# Altium integrated library PSOM_EvalA.IntLib: 30 symbols
Pins are listed as number, name and electrical type; pins without a type are passive.

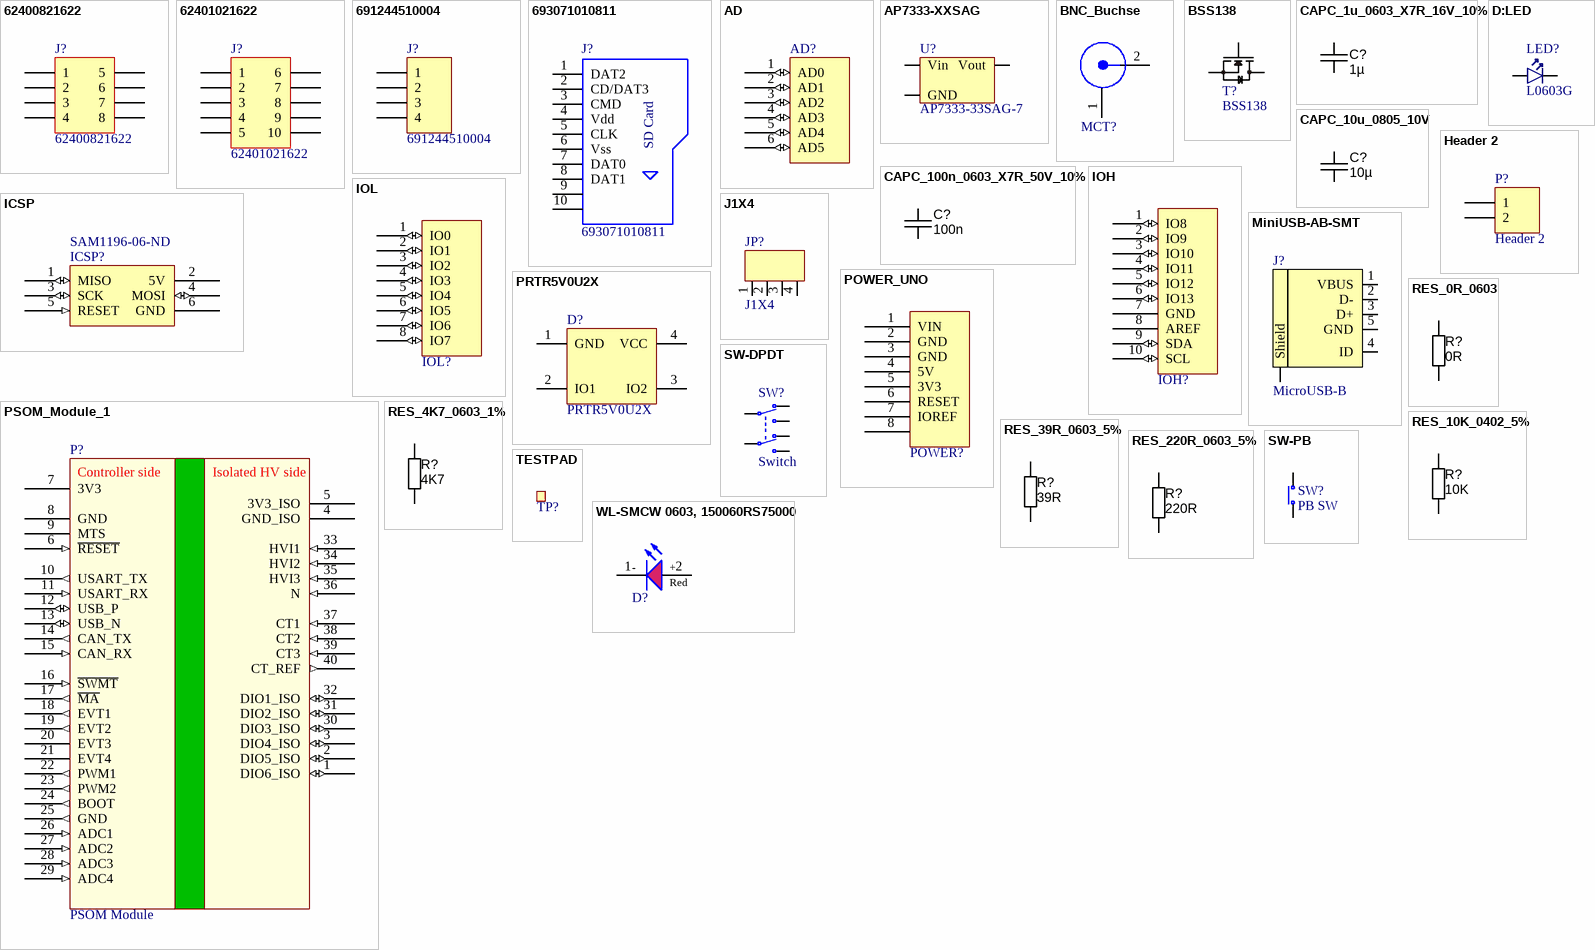
[diagram p0: symbols 62400821622 to WL-SMCW 0603, 150060RS75000]

## 62400821622
designator J?
WR-WTB 2.00mm Male Dual Row Vertical Shrouded Header w. positive locking, 8 pins; Manufacturer: Wurth Elektronik; ComponentLink1 Description: Manufacturer; ComponentLink2 Description: Datasheet; NoPins: 8; Created Date: March 2016; partNo: 62400821622; ComponentLink1URL: http://www.we-online.com; ComponentLink2URL: http://katalog.we-online.de/em/datasheet/6240xx21622.pdf; Created by: Baojun Chen
footprint 62400821622 (08 pins, Dual Rows, Straight, tin plating)
pins: 1, 2, 3, 4, 5, 6, 7, 8

## 62401021622
designator J?
WR-WTB 2.00mm Male Dual Row Vertical Shrouded Header w. positive locking, 10 pins; Manufacturer: Wurth Elektronik; ComponentLink1 Description: Manufacturer; ComponentLink2 Description: Datasheet; NoPins: 10; Created Date: March 2016; partNo: 62401021622; ComponentLink1URL: http://www.we-online.com; ComponentLink2URL: http://katalog.we-online.de/em/datasheet/6240xx21622.pdf; Created by: Baojun Chen
footprint 62401021622 (10 pins, Dual Rows, Straight, tin plating)
pins: 1, 2, 3, 4, 5, 6, 7, 8, 9, 10

## 691244510004
designator J?
WR-TBL Serie 2445 - 5.08mm Horizontal Entry Modular w. Rising Cage Clamp, 04p; PinNumber: 04; Published: June 2016; Publisher: Wurth Elektronik; ComponentLink1Description: Manufacturer; ComponentLink1URL: http://www.we-online.de; ComponentLink2Description: Datasheet; ComponentLink2URL: http://katalog.we-online.de/em/datasheet/6912445100XX.pdf; PartNumber: 691244510004
footprint 691244510004 (Serie 2445 - 5.08 mm _ 4 pins)
pins: 1, 2, 3, 4

## 693071010811
designator J?
WR-CRD Micro SD Card Connector Push & Push - 8 pins; Published: June 2016; Publisher: Wurth Elektronik; ComponentLink1Description: Manufacturer; ComponentLink1URL: http://www.we-online.de; ComponentLink2Description: Datasheet; ComponentLink2URL: http://katalog.we-online.de/em/datasheet/693071010811.pdf; PartNumber: 693071010811
footprint 693071010811 (WR-CRD Micro SD_Push and Push_Card Detection_8 pins)
pins: 1 DAT2, 2 CD/DAT3, 3 CMD, 4 Vdd, 5 CLK, 6 Vss, 7 DAT0, 8 DAT1, 9, 10
text: SD Card

## AD
designator AD?  (value not drawn)
Supplier 1: Arrow; Supplier Part Number 1: 2699089; Supplier 2: Digi-Key; Supplier Part Number 2: SAM1198-06-ND; Supplier 3: Arrow; Supplier Part Number 3: 2699088; Supplier 4: Arrow; Supplier Part Number 4: 2699075
footprint Header 6x1 8.5mm (Stackable 6 pin header)
pins: 1 AD0 (io), 2 AD1 (io), 3 AD2 (io), 4 AD3 (io), 5 AD4 (io), 6 AD5 (io)

## AP7333-XXSAG
designator U?, comment AP7333-33SAG-7
300mA, Low Quiescent Current, Fast Transient Low Dropout Linear Regulator; Manufacturer: Diodes Incorporated; Part Number: AP7333-33SAG-7; Manufacturer Part Number: AP7333-33SAG-7; Datasheet: http://www.diodes.com/datasheets/AP7333.pdf; Value: AP7333-33SAG-7; Supplier: Digi-Key; Supplier part number: AP7333-33SAG-7DICT-ND; Footprint Doc: SOT-23-3
footprint SOT-23A
pins: 1 Vin, 2 Vout, 3 GND

## BNC_Buchse
designator MCT?
BNC Conector
footprint BNC_Female (BNC Buchse)
pins: 1 "USB Vcc [Red]", 2 "USB Data - [White]"

## BSS138
designator T?
N-Chanel FET,SMD; Text Field7: Best.-Nr.:; NEU:  PM / 20.10.97: *; Geändert:: *
footprint SOT23-3 (SOT23, 3 pin)
pins: 1 G, 2 S, 3 D

## CAPC_1u_0603_X7R_16V_10%
designator C?, comment value 1µ  (hidden comment: approved sub OK)
Capacitor SMD Cer 1uF 10% 16V X7R 0603; Manufacturer 1: TDK Corporation; Manufacturer Part Number 1: C1608X7R1C105K; Ratings: 16V; X7R; Material: ceramic; SCDType: spec; Package / Case: 0603 (1608 metric); Tolerance: ±10%; Supplier 1: Digi-Key; Supplier Part Number 1: 445-1604-1-ND; ComponentLink1URL: http://product.tdk.com/capacitor/mlcc/en/documents/mlcc_commercial_general_en.pdf; ComponentLink1Description: http://product.tdk.com/capacitor/mlcc/en/documents/mlcc_commercial_general_en.pdf
footprint CAPC1608X90N (Chip Capacitor, Body 1.6x0.8mm, 0603, IPC Medium Density)
pins: 1, 2

## CAPC_10u_0805_10V
designator C?, comment value 10µ  (hidden comment: approved sub OK)
Capacitor SMD Cer 10uF 10% 10V X5R 0805; Manufacturer 1: AVX Corporation; Manufacturer Part Number 1: 0805ZD106KAT2A; Ratings: 10V; X5R; Material: ceramic; SCDType: spec; Package / Case: 0805 (2012 metric); Tolerance: ±10%; Manufacturer 2: Kemet; Manufacturer Part Number 2: C0805C106K8PACTU; Supplier 1: Digi-Key; Supplier Part Number 1: 478-5167-1-ND; ComponentLink1URL: http://www.avx.com/docs/Catalogs/cx5r.pdf; ComponentLink1Description: http://www.avx.com/docs/Catalogs/cx5r.pdf; ComponentLink2URL: http://www.kemet.com/datasheets&C0805C106K8PACTU; ComponentLink2Description: http://www.kemet.com/datasheets&C0805C106K8PACTU; Supplier 2: Digi-Key; Supplier Part Number 2: 399-4925-1-ND
footprint CAPC2012X135N (Chip Capacitor, Body 2.0x1.2mm, 0805, IPC Medium Density)
pins: 1, 2

## CAPC_100n_0603_X7R_50V_10%
designator C?, comment value 100n  (hidden comment: approved sub OK)
Capacitor SMD Cer 100nF 10% 50V X7R 0603; Manufacturer 1: AVX Corporation; Manufacturer Part Number 1: 06035C104KAT2A; Ratings: 50V; X7R; Material: ceramic; SCDType: spec; Manufacturer 2: TDK Corporation; Manufacturer Part Number 2: C1608X7R1H104K; Package / Case: 0603 (1608 Metric); Tolerance: ±10%; Supplier 1: Digi-Key; Supplier Part Number 1: 478-5052-1-ND; ComponentLink1URL: http://www.avx.com/docs/Catalogs/cx7r.pdf; ComponentLink1Description: http://www.avx.com/docs/Catalogs/cx7r.pdf; Supplier 2: Digi-Key; Supplier Part Number 2: 445-1314-1-ND; ComponentLink2URL: http://product.tdk.com/capacitor/mlcc/en/documents/mlcc_commercial_general_en.pdf; ComponentLink2Description: http://product.tdk.com/capacitor/mlcc/en/documents/mlcc_commercial_general_en.pdf
footprint CAPC1608X90N (Chip Capacitor, Body 1.6x0.8mm, 0603, IPC Medium Density)
pins: 1, 2

## D:LED
designator LED?, comment L0603G
LED 0603, EL19-21SYGC; Manufacturer: Everlight; Manufacturer Part Number: 19-21SYGC/S530-E1/TR8; Note: 16 mcd @ 20 mA; Artikkelnr Noca: 13019044; Artikkelnr Simpro: N.A.; Part Number: EL19-21SYGC; Datasheet: http://www.everlight.com/datasheets/19_21SYGC_S530_E2_TR8.pdf; Footprint Doc: 0603; LatestRevisionDate: 2013-06-04; Pin Count: 2; Publisher: Nordic Semiconductor; Published: 2009-05-18; Value: L0603G; Supplier: Mouser; Supplier part number: 638-1921SYGCS530; 2nd source Supplier: *; 2nd source part number: *
footprint LED_0603_G
pins: 1 C, 2 A

## Header 2
designator P?
Header, 2-Pin; LatestRevisionDate: 17-Jul-2002; LatestRevisionNote: Re-released for DXP Platform.; Publisher: Altium Limited
footprint HDR1X2 (Connector; Header; 2 Position)
signal-integrity model Connector
pins: 1, 2

## ICSP
designator ICSP?  Supplier Part Number 5: SAM1196-06-ND  (hidden comment: ICSP)
Supplier 1: Arrow; Supplier Part Number 1: 2699117; Supplier 2: Arrow; Supplier Part Number 2: 2699116; Supplier 3: Digi-Key; Supplier Part Number 3: SAM1185-06-ND; Supplier 4: Arrow; Supplier Part Number 4: 2699091; Supplier 5: Digi-Key
footprint ICSP
pins: 1 MISO (io), 2 5V (power), 3 SCK (io), 4 MOSI (io), 5 RESET (in), 6 GND (power)

## IOH
designator IOH?  (value not drawn)
Supplier 1: Arrow; Supplier Part Number 1: 2698803S4475693N1004; Supplier 2: Digi-Key; Supplier Part Number 2: SAM1198-10-ND; Supplier 3: Arrow; Supplier Part Number 3: 2698789
footprint Header 10x1 8.5mm (Stackable 10 pin header)
pins: 1 IO8 (io), 2 IO9 (io), 3 IO10 (io), 4 IO11 (io), 5 IO12 (io), 6 IO13 (io), 7 GND (power), 8 AREF, 9 SDA (io), 10 SCL (io)

## IOL
designator IOL?  (value not drawn)
Supplier 1: Digi-Key; Supplier Part Number 1: SAM1198-08-ND; Supplier 2: Arrow; Supplier Part Number 2: 2698939; Supplier 3: Arrow; Supplier Part Number 3: 2698940; Supplier 4: Arrow; Supplier Part Number 4: 2698925
footprint Header 8x1 8.5mm (Stackable 8 pin header)
pins: 1 IO0 (io), 2 IO1 (io), 3 IO2 (io), 4 IO3 (io), 5 IO4 (io), 6 IO5 (io), 7 IO6 (io), 8 IO7 (io)

## J1X4
designator JP?
Jumper 1x4, Stift, gerade, RM 2.54; Text Field1: STBGS1G36L; Text Field2: RM2,5; Text Field3: %; Text Field4: V; Text Field5: W; Text Field7: Best.-Nr.: 555647-01, Spoerle nein!!!!; Text Field8: STV-BUS 14pol. Stift, einreihig, gerade
footprint SIP4
pins: 1, 2, 3, 4

## MiniUSB-AB-SMT
designator J?, comment MicroUSB-B
MicroUSB-B-SMT; Part Number: FCI 10118193-0001LF; Manufacturer: FCI; Manufacturer Part Number: 10118193-0001LF; 2nd source part number: 649-10118193-0001LF; Artikkelnr Noca: N.A.; Datasheet: http://portal.fciconnect.com/Comergent//fci/drawing/10118193.pdf; Footprint Doc: FCI_10118193-0001LF; LatestRevisionDate: 2014-10-07; Pin Count: 5; Publisher: Nordic Semiconductor; Published: 2014-10-07; Value: MicroUSB-B; Note: *; Supplier: Digi-Key; Supplier part number: 609-4616-1-ND; 2nd source Supplier: Mouser; Artikkelnr Simpro: N.A.
footprint FCI_10118193-0001LF
pins: 1 VBUS (power), 2 D-, 3 D+, 4 ID, 5 GND (power), 6 Shield (power)

## POWER_UNO
designator POWER?  (value not drawn)
Supplier 1: Digi-Key; Supplier Part Number 1: SAM1198-08-ND; Supplier 2: Arrow; Supplier Part Number 2: 2698939; Supplier 3: Arrow; Supplier Part Number 3: 2698940; Supplier 4: Arrow; Supplier Part Number 4: 2698925
footprint Header 8x1 8.5mm (Stackable 8 pin header)
pins: 1 VIN (power), 2 GND (power), 3 GND (power), 4 5V (power), 5 3V3 (power), 6 RESET, 7 IOREF (power), 8

## PRTR5V0U2X
designator D?
Ultra low capacitance double rail-to-rail ESD protection diode; Manufacturer: NXP; 2nd source part number: 152-4157; Artikkelnr Noca: 10069015; Artikkelnr Simpro: N.A.; Part Number: PRTR5V0U2X; Manufacturer Part Number: PRTR5V0U2X; Datasheet: http://www.farnell.com/datasheets/109718.pdf; LatestRevisionDate: 2012-06-11; Publisher: Nordic Semiconductor; Published: 2012-06-11; Value: PRTR5V0U2X; Note: *; Supplier: Digi-Key; Supplier part number: 568-4140-1-ND; 2nd source Supplier: Farnell; Footprint Doc: SOT-143B
footprint SOT190P230X110-4L
pins: 1 GND, 2 IO1, 3 IO2, 4 VCC

## PSOM_Module_1
designator P?, comment PSOM Module
Power analysis system on a module; Contact: nilsminor@web.de; Creator: Nils Minor; Version: V1; Creation Date: 14.10.2016; Information: https://github.com/NilsMinor/PSOM
footprint PSOM_SMD
footprint PSOM_THT
pins: 1 DIO6_ISO (io) "3V3 isolated GPIO (HV side)", 2 DIO5_ISO (io) "3V3 isolated GPIO (HV side)", 3 DIO4_ISO (io) "3V3 isolated GPIO (HV side)", 4 GND_ISO (power) "GND isolated (HV side)", 5 3V3_ISO (power) "3V3 ioslated voltage source (HV side)", 6 ~{RESET} (in) "Reset Input active low", 7 3V3 (power) "3V3 module power supply VDD", 8 GND (power) "GND module VCC", 9 MTS, 10 USART_TX (out) "USART_TX output", 11 USART_RX (in) "USART_RX input", 12 USB_P (io) "USB+", 13 USB_N (io) "USB-", 14 CAN_TX (out), 15 CAN_RX (in), 16 ~{SWMT} (in) "Software Measurment Trigger, active low", 17 ~{MA} (out) "Measurment Active, low active", 18 EVT1 (out), 19 EVT2 (out), 20 EVT3 "reserved pin 1 for future use", 21 EVT4 "reserved pin 2 for future use", 22 PWM1 (out), 23 PWM2 (out), 24 BOOT (out), 25 GND (out), 26 ADC1 (in), 27 ADC2 (in), 28 ADC3 (in), 29 ADC4 (in), 30 DIO3_ISO (io) "3V3 isolated GPIO (HV side)", 31 DIO2_ISO (io) "3V3 isolated GPIO (HV side)", 32 DIO1_ISO (io) "3V3 isolated GPIO (HV side)", 33 HVI1 (in) "High voltage input 1", 34 HVI2 (in) "High voltage input 2", 35 HVI3 (in) "High voltage input 3", 36 N (in) "Neutral line input", 37 CT1 (in) "Current transformer input 1", 38 CT2 (in) "Current transformer input 2", 39 CT3 (in) "Current transformer input 3", 40 CT_REF (out) "Reference source for Current transformers"
text: Controller side; Isolated HV side

## RES_0R_0603
designator R?, comment value 0R  (hidden comment: Thick Film)  (net tie, no BOM)
Resistor SMD chip 0.0 Ohm 0.1W 0603; Manufacturer 1: Vishay/Dale; Manufacturer Part Number 1: CRCW06030000Z0EA; Tolerance: ±5%; Ratings: 1/10W; SCDType: spec; Package / Case: 0603 (1608metric); Supplier 1: Digi-Key; Supplier Part Number 1: 541-0.0GCT-ND; ComponentLink1URL: http://www.vishay.com/doc?20035; ComponentLink1Description: http://www.vishay.com/doc?20035; Supplier 2: Digi-Key; Supplier Part Number 2: P0.0GTR-ND; Manufacturer 2: Panasonic Electronic Components; Manufacturer Part Number 2: ERJ-3GEY0R00V; RoHS 2: RoHS Compliant; ComponentLink2URL: http://industrial.panasonic.com/www-cgi/jvcr13pz.cgi?E+PZ+3+AOA0001+ERJ3GEY0R00V+7+WW; ComponentLink2Description: http://industrial.panasonic.com/www-cgi/jvcr13pz.cgi?E+PZ+3+AOA0001+ERJ3GEY0R00V+7+WW; Supplier 3: Digi-Key; Supplier Part Number 3: 311-0.0LECT-ND; Manufacturer 3: Yageo; Manufacturer Part Number 3: AC0603JR-070RL; RoHS 3: RoHS Compliant; ComponentLink3URL: http://www.yageo.com/documents/recent/PYu-AC_51_RoHS_L_2.pdf; ComponentLink3Description: http://www.yageo.com/documents/recent/PYu-AC_51_RoHS_L_2.pdf
footprint RESC1608N_ZERO (Chip Resistor, Body 1.6x0.8mm, 0603, IPC Medium Density)
pins: 1, 2

## RES_4K7_0603_1%
designator R?, comment value 4K7  (hidden comment: Thick Film)
Resistor SMD chip 4.7K Ohm 0.1W 1% 0603; Manufacturer: Yageo; Manufacturer Part Number: RC0603FR-074K7L; Ratings: 1/10W; SCDType: undef; Package / Case: 0603 (1608 Metric); Supplier 1: Digi-Key; Supplier Part Number 1: 311-4.70KHRCT-ND; Tolerance: ±1%
footprint RESC1005X40N (Chip Resistor, Body 1.0x0.5mm, EIA 0402, IPC Medium Density)
pins: 1, 2

## RES_10K_0402_5%
designator R?, comment value 10K  (hidden comment: Thick Film)
Resistor SMD chip 10k Ohm 0.063W 5% 0402; Manufacturer 1: Vishay Dale; Manufacturer Part Number 1: CRCW040210K0FKED; Ratings: 1/16 W; SCDType: undef; Package / Case: 0402 (1005 Metric); Tolerance: ±5%; Manufacturer 2: Yageo; Manufacturer Part Number 2: RC0402JR-0710KL; Supplier 1: Digi-Key; Supplier Part Number 1: 541-10.0KLCT-ND; ComponentLink1URL: http://www.vishay.com/doc?20035; ComponentLink1Description: http://www.vishay.com/doc?20035; Supplier 2: Digi-Key; Supplier Part Number 2: 311-10KJRCT-ND; ComponentLink2URL: http://www.yageo.com/documents/recent/PYu-RC0402_51_RoHS_L_6.pdf; ComponentLink2Description: http://www.yageo.com/documents/recent/PYu-RC0402_51_RoHS_L_6.pdf
footprint RESC1005X40N (Chip Resistor, Body 1.0x0.5mm, EIA 0402, IPC Medium Density)
pins: 1, 2

## RES_39R_0603_5%
designator R?, comment value 39R  (hidden comment: Thick Film)
Resistor SMD chip 39 Ohm 0.1W 5% 0603; Manufacturer 1: Vishay Dale; Manufacturer Part Number 1: CRCW060339R0JNEA; Ratings: 1/10 W; SCDType: spec; Package / Case: 0603 (1608 metric); Tolerance: ±5%; Manufacturer 2: Yageo; Manufacturer Part Number 2: RC0603JR-0739RL; Supplier 1: Digi-Key; Supplier Part Number 1: 541-39GCT-ND; ComponentLink1URL: http://www.vishay.com/doc?20035; ComponentLink1Description: http://www.vishay.com/doc?20035; Supplier 2: Digi-Key; Supplier Part Number 2: 311-39GRCT-ND; ComponentLink2URL: http://www.yageo.com/documents/recent/PYu-RC0603_51_RoHS_L_4.pdf; ComponentLink2Description: http://www.yageo.com/documents/recent/PYu-RC0603_51_RoHS_L_4.pdf
footprint RESC1608X55N (Chip Resistor, Body 1.6x0.8mm, 0603, IPC Medium Density)
pins: 1, 2

## RES_220R_0603_5%
designator R?, comment value 220R  (hidden comment: Thick Film)
Resistor SMD chip 220 Ohm 0.1W 5% 0603; Manufacturer 1: Yageo; Manufacturer Part Number 1: RC0603JR-07220RL; Ratings: 1/10 W; SCDType: spec; Manufacturer 5: Royal Ohm; Manufacturer Part Number 5: 0603WAJ0221; Package / Case: 0603 (1608 metric); Tolerance: ±5%; Material: Thick Film; Supplier 1: Digi-Key; Supplier Part Number 1: 311-220GRCT-ND; Supplier 2: Digi-Key; Supplier Part Number 2: P220GCT-ND; Manufacturer 2: Panasonic Electronic Components; Manufacturer Part Number 2: ERJ-3GEYJ221V; RoHS 2: RoHS Compliant; ComponentLink2URL: http://industrial.panasonic.com/www-cgi/jvcr13pz.cgi?E+PZ+3+AOA0001+ERJ3GEYJ221V+7+WW; ComponentLink2Description: http://industrial.panasonic.com/www-cgi/jvcr13pz.cgi?E+PZ+3+AOA0001+ERJ3GEYJ221V+7+WW; ComponentLink1URL: http://www.yageo.com/documents/recent/PYu-RC0603_51_RoHS_L_4.pdf; ComponentLink1Description: http://www.yageo.com/documents/recent/PYu-RC0603_51_RoHS_L_4.pdf; Supplier 3: Digi-Key; Supplier Part Number 3: RMCF0603JT220RCT-ND; Manufacturer 3: Stackpole Electronics Inc; Manufacturer Part Number 3: RMCF0603JT220R; RoHS 3: RoHS Compliant; ComponentLink3URL: http://www.seielect.com/Catalog/SEI-RMCF_RMCP.pdf; ComponentLink3Description: http://www.seielect.com/Catalog/SEI-RMCF_RMCP.pdf; Supplier 4: Digi-Key; Supplier Part Number 4: RHM220CGCT-ND; Manufacturer 4: Rohm Semiconductor; Manufacturer Part Number 4: MCR03ERTJ221; RoHS 4: RoHS Compliant; ComponentLink4URL: http://rohmfs.rohm.com/en/products/databook/datasheet/passive/resistor/chip_resistor/mcr_g.pdf; ComponentLink4Description: http://rohmfs.rohm.com/en/products/databook/datasheet/passive/resistor/chip_resistor/mcr_g.pdf; RoHS 1: RoHS Compliant
footprint RESC1005X40N (Chip Resistor, Body 1.0x0.5mm, EIA 0402, IPC Medium Density)
pins: 1, 2

## SW-DPDT
designator SW?, comment Switch
SMD slide Switch (ON-ON); Part Number: JS202011SCQN; Manufacturer: C&K Components; 2nd source part number: 232-0019; Artikkelnr Noca: N.A.; Manufacturer Part Number: JS202011SCQN; Datasheet: http://www.ck-components.com/14398/js_14july11.pdf/; LatestRevisionDate: 2014-06-24; Pin Count: 6; Publisher: Nordic Semiconductor; Published: 2014-06-24; Value: Switch; Note: *; Supplier: Digi-Key; Supplier part number: 401-2002-1-ND; 2nd source Supplier: Farnell; Footprint Doc: JS202011SCQN; Artikkelnr Simpro: N.A.
footprint JS202011SCQN
pins: 1 N.O-1, 2 COM-1, 3 N.C-1, 4 N.O-2, 5 COM-2, 6 N.C-2

## SW-PB
designator SW?, comment PB SW
ALPS - SKHUALE010 - Tactile Switch, SPNO, SMD, 6.5x6.2x2.5mm; Part Number: ALPS_SKHUALE010; 2nd source part number: 688-SKHUALE010; Artikkelnr Noca: 50019001; Artikkelnr Simpro: N.A.; Manufacturer: Alps; Manufacturer Part Number: SKHUALE010; Datasheet: https://www1.elfa.se/data1/wwwroot/webroot/Z_DATA/03579000.pdf; LatestRevisionDate: 2010-02-01; Pin Count: 4; Publisher: Nordic Semiconductor; Published: 2010-02-01; Value: PB SW; Note: *; Supplier: Elfa; Supplier part number: 35-790-00; 2nd source Supplier: Mouser; Footprint Doc: ALPS_SKHUxxx010_WO_GND
footprint ALPS_SKHUxxx010_WO_GND
pins: 1 N.O, 2 COM

## TESTPAD
designator TP?, comment Ø1.0mm,SMD  (value not drawn)  (no BOM)
1.0mm circular SMD testpad; Part Number: TP_SMD_Ø1.0MM; Manufacturer: Nordic Semiconductor; Artikkelnr Noca: N.A.; Manufacturer Part Number: *; Datasheet: *; LatestRevisionDate: 2013-06-11; Pin Count: 1; Publisher: Nordic Semiconductor; Published: 2013-06-11; Value: Ø1.0mm,SMD; Note: *; Supplier: *; Supplier part number: *; 2nd source Supplier: *; 2nd source part number: *; Footprint Doc: TP_SMD_Ø1.0mm; Artikkelnr Simpro: N.A.
footprint TP_SMD_Ø1.0mm
pins: 1

## WL-SMCW 0603, 150060RS75000
designator D?, comment 150060RS75000  (value not drawn)
WL-SMCW SMD chip LED top view mono-color waterclear, 0603, Red; Manufacturer: Wurth Elektronik; PartNo: 150060RS75000; ComponentLink1Description: Manufacturer; ComponentLink1URL: http://www.we-online.de; Created by: Baojun Chen; Created Date: March 2016; ComponentLink2Description: Datasheet; ComponentLink2URL: http://katalog.we-online.de/led/datasheet/150060RS75000.pdf
footprint WL-SMCW_0603 (Chip LED, 2-Leads, Body 1.6x0.8mm, IPC Medium Density)
pins: 1 -, 2 +
text: Red